# Altium integrated library SJ1-3534N.IntLib: 1 symbol
Pins are listed as number, name and electrical type; pins without a type are passive.

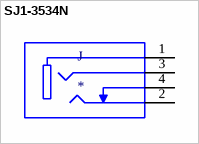
[diagram p0: symbol SJ1-3534N]

## SJ1-3534N
designator J
3,5 мм, стерео, прямой угол, сквозное отверстие, аудиоразъем; MP: SJ1-3534N; MF: CUI Devices
footprint CUI_SJ1-3534N
pins: 1, 2, 3, 4